# EAGLE library part TLE5206-2 (library gost_micro)
TLE 5206-2 INFENION 5-A H-Bridge for DC-Motor Applications
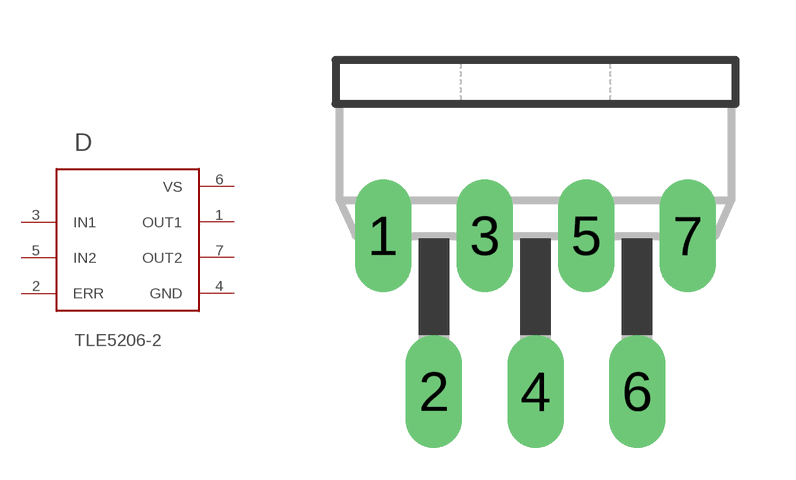
[diagram p14: symbol with the pads of TO220-7; footprint TO220-7]

Designator prefix D

## TLE5206-2  [TO220-7]
1  OUT1
2  ERR
3  IN1
4  GND
5  IN2
6  VS
7  OUT2

## Footprint TO220-7 (pad centres in mm)
TO220-7
drill 0.9 long: 1 -3.81,-4.5; 2 -2.54,-8.4; 3 -1.27,-4.5; 4 0,-8.4; 5 1.27,-4.5; 6 2.54,-8.4; 7 3.81,-4.5